# Altium footprint library CECC.PcbLib: 1 footprints
Each footprint in its own frame and in the unit in brackets; x right, y up, seen from the top. Pads: shape width x height; smd on the part's side, far side on the other; paste and mask are expansions set on the pad; w line width, h text height; cw(c..) or ccw(c..) is an arc to the next point about the centre after c.
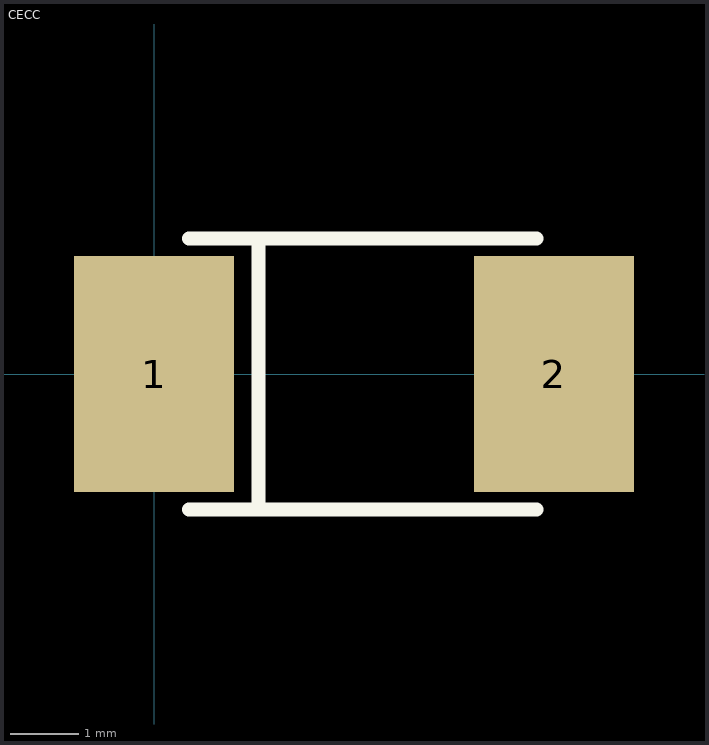
[diagram p0: the footprint, top view; thin cyan lines are the x and y axes]

## CECC [mil]
height 100
pads (2):
  rect 92x136 smd: 1(0,0) 2(230,0)
TopOverlay:
  lines w8: 20,-78 220,-78 ; 20,78 220,78 ; 60,-77 60,78
Mechanical4:
  text ".110" at -20,0 h1